# Altium schematic symbol library TSW-107-07-G-S.SchLib: 1 symbol
Pins are listed as number, name and electrical type; pins without a type are passive.

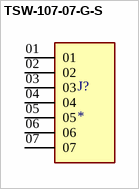
[diagram p0: symbol TSW-107-07-G-S]

## TSW-107-07-G-S
designator J?
<a href="https://pricing.snapeda.com/parts/TSW-107-07-G-S/Samtec%20Inc./view-part?ref=eda">Check availability</a>; MF: {'manufacturer': u'Samtec Inc.'}; Package: None; Price: None; Value: *; MP: TSW-107-07-G-S; Availability: Unavailable
footprint SAMTEC_TSW-107-07-G-S
pins: 01, 02, 03, 04, 05, 06, 07